# EAGLE library part 74141 (library nixiemisc)
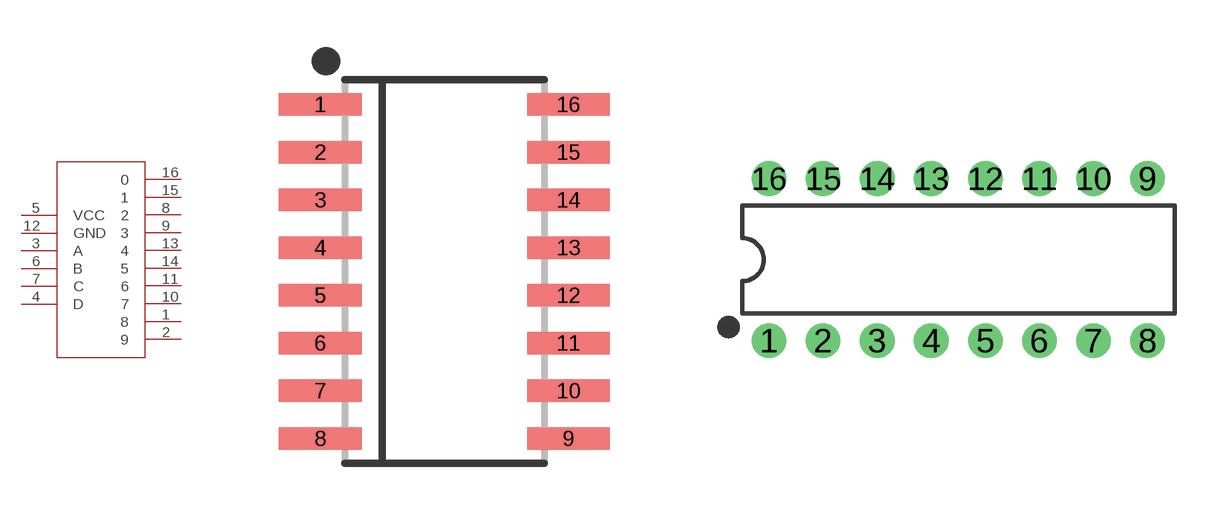
[diagram p17: symbol with the pads of SOIC16-5.3MM; footprints SOIC16-5.3MM, DIP16]

Designator prefix M

## 74141SOIC16  [SOIC16-5.3MM]
1  8  pas
2  9  pas
3  A  pas
4  D  pas
5  VCC  pwr
6  B  pas
7  C  pas
8  2  pas
9  3  pas
10  7  pas
11  6  pas
12  GND  pwr
13  4  pas
14  5  pas
15  1  pas
16  0  pas

## 74141DIP16  [DIP16]
Pads as for SOIC16-5.3MM

## Footprint SOIC16-5.3MM (pad centres in mm)
smd 2.2 x 0.6: 1 -3.3,4.445; 2 -3.3,3.175; 3 -3.3,1.905; 4 -3.3,0.635; 5 -3.3,-0.635; 6 -3.3,-1.905; 7 -3.3,-3.175; 8 -3.3,-4.445; 9 3.3,-4.445; 10 3.3,-3.175; 11 3.3,-1.905; 12 3.3,-0.635; 13 3.3,0.635; 14 3.3,1.905; 15 3.3,3.175; 16 3.3,4.445

## Footprint DIP16 (pad centres in mm)
Dual In Line Package
drill 0.813 pad 1.626: 1 -8.89,-3.81; 2 -6.35,-3.81; 3 -3.81,-3.81; 4 -1.27,-3.81; 5 1.27,-3.81; 6 3.81,-3.81; 7 6.35,-3.81; 8 8.89,-3.81; 9 8.89,3.81; 10 6.35,3.81; 11 3.81,3.81; 12 1.27,3.81; 13 -1.27,3.81; 14 -3.81,3.81; 15 -6.35,3.81; 16 -8.89,3.81